# EAGLE library part SN74AUP2G17 (library arcs_library)
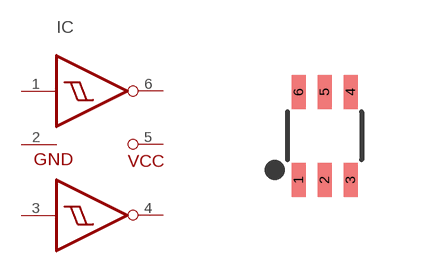
[diagram p6: symbol with the pads of SC-70-6; footprint SC-70-6]

Designator prefix IC

## SN74AUP2G17  [SC-70-6]
1  1A  in
2  GND  in
3  2A  in
4  2Y  out
5  VCC  out
6  1Y  out

## Footprint SC-70-6 (pad centres in mm)
smd 0.35 x 0.85: 1 -0.65,-1.1; 2 0,-1.1; 3 0.65,-1.1; 4 0.65,1.1; 5 0,1.1; 6 -0.65,1.1